# EAGLE library part THINGPLUS_PHYSICAL (library ThingPlus)
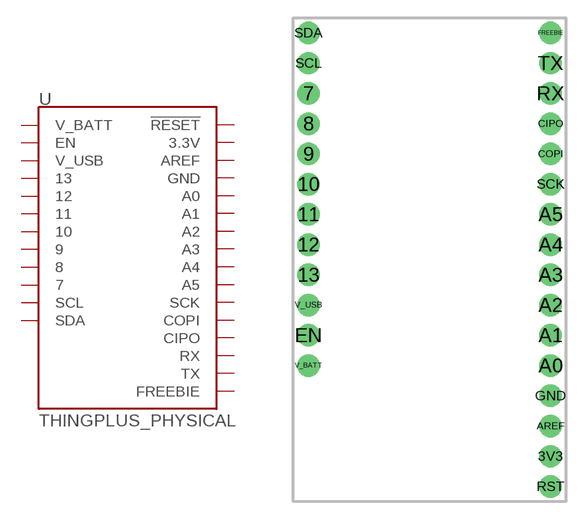
[diagram p0: symbol with the pads of THINGPLUS_FOOTPRINT; footprint THINGPLUS_FOOTPRINT]

Designator prefix U

## THINGPLUS_PHYSICAL  [THINGPLUS_FOOTPRINT]
3V3  3.3V
7  7
8  8
9  9
10  10
11  11
12  12
13  13
A0  A0
A1  A1
A2  A2
A3  A3
A4  A4
A5  A5
AREF  AREF
CIPO  CIPO
COPI  COPI
EN  EN
FREEBIE  FREEBIE
GND  GND
RST  !RESET
RX  RX
SCK  SCK
SCL  SCL
SDA  SDA
TX  TX
V_BATT  V_BATT
V_USB  V_USB

## Footprint THINGPLUS_FOOTPRINT (pad centres in mm)
drill 1.016 pad 1.88: 3V3 10.16,-19.05; 7 -10.16,11.43; 8 -10.16,8.89; 9 -10.16,6.35; 10 -10.16,3.81; 11 -10.16,1.27; 12 -10.16,-1.27; 13 -10.16,-3.81; A0 10.16,-11.43; A1 10.16,-8.89; A2 10.16,-6.35; A3 10.16,-3.81; A4 10.16,-1.27; A5 10.16,1.27; AREF 10.16,-16.51; CIPO 10.16,8.89; COPI 10.16,6.35; EN -10.16,-8.89; FREEBIE 10.16,16.51; GND 10.16,-13.97; RST 10.16,-21.59; RX 10.16,11.43; SCK 10.16,3.81; SCL -10.16,13.97; SDA -10.16,16.51; TX 10.16,13.97; V_BATT -10.16,-11.43; V_USB -10.16,-6.35